# EAGLE library part 4HDR (library libami)
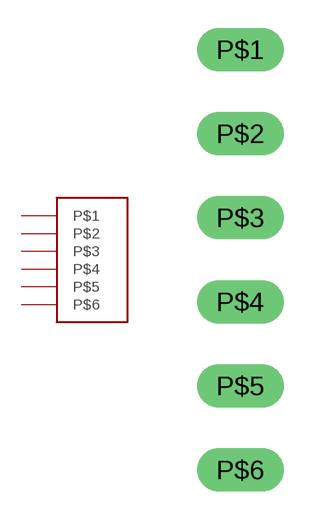
[diagram p12: symbol with the pads of 4HDR; footprint 4HDR]

Designator prefix -

## 4HDR  [4HDR]
P$1  P$1
P$2  P$2
P$3  P$3
P$4  P$4
P$5  P$5
P$6  P$6

## Footprint 4HDR (pad centres in mm)
drill 0.8 long: P$1 0,0; P$2 0,-2.54; P$3 0,-5.08; P$4 0,-7.62; P$5 0,-10.16; P$6 0,-12.7